# EAGLE library part AD844 (library cdp)
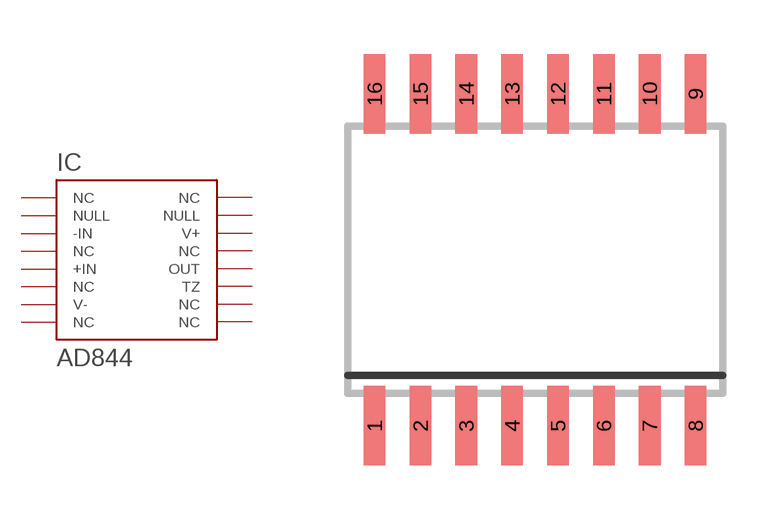
[diagram p13: symbol with the pads of SO-16W; footprint SO-16W]

Designator prefix IC

## AD844  [SO-16W]
1  NC  nc
2  NULL  nc
3  -IN  in
4  NC  nc
5  +IN  in
6  NC  nc
7  V-  nc
8  NC  nc
9  NC  nc
10  NC  nc
11  TZ  nc
12  OUT  nc
13  NC  nc
14  V+  nc
15  NULL  nc
16  NC  nc

## Footprint SO-16W (pad centres in mm)
16-Lead (Wide Body) Small Outline Package (R-16) Source: http://www.analog.com/UploadedFiles/Data_Sheets/409317160AD421_c.pdf
smd 0.6 x 2.2: 1 -4.445,-4.6; 2 -3.175,-4.6; 3 -1.905,-4.6; 4 -0.635,-4.6; 5 0.635,-4.6; 6 1.905,-4.6; 7 3.175,-4.6; 8 4.445,-4.6; 9 4.445,4.6; 10 3.175,4.6; 11 1.905,4.6; 12 0.635,4.6; 13 -0.635,4.6; 14 -1.905,4.6; 15 -3.175,4.6; 16 -4.445,4.6